# EAGLE library part CONNECTOR-IO4-IOB-V3 (library SPCoast)
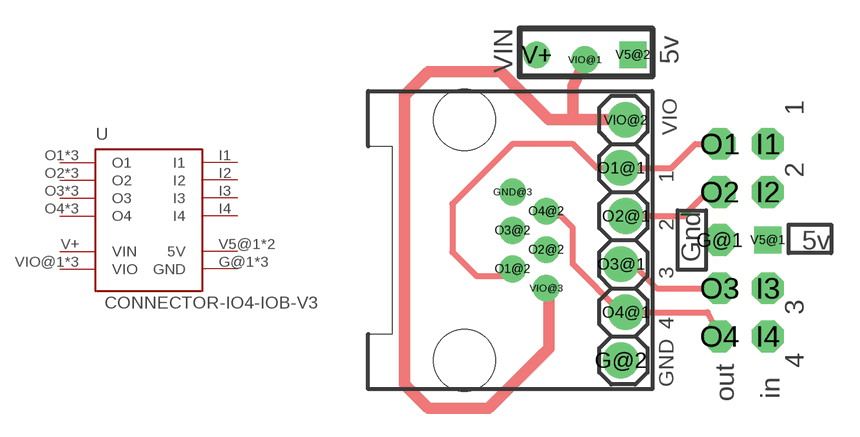
[diagram p81: symbol with the pads of IOB-V3-BASE; footprint IOB-V3-BASE]

Designator prefix -

## CONNECTOR-IO4-IOB-V3  [IOB-V3-BASE]
G@1  GND  sup
G@2  GND  sup
GND@3  GND  sup
I1  I1
I2  I2
I3  I3
I4  I4
O1  O1
O1@1  O1
O1@2  O1
O2  O2
O2@1  O2
O2@2  O2
O3  O3
O3@1  O3
O3@2  O3
O4  O4
O4@1  O4
O4@2  O4
V5@1  5V  sup
V5@2  5V  sup
V+  VIN  sup
VIO@1  VIO  sup
VIO@2  VIO  sup
VIO@3  VIO  sup

## Footprint IOB-V3-BASE (pad centres in mm)
drill 1.016 pad 1.676 octagon: G@1 26.797,10.16; I1 29.337,15.24; I2 29.337,12.7; I3 29.337,7.62; I4 29.337,5.08; O1 26.797,15.24; O2 26.797,12.7; O3 26.797,7.62; O4 26.797,5.08
drill 1.016 pad 1.88: G@2 21.59,3.81; O1@1 21.59,13.97; O2@1 21.844,11.43; O3@1 21.59,8.89; O4@1 21.844,6.35; VIO@2 21.844,16.51
drill 0.9 pad 1.4: GND@3 15.875,12.7; O1@2 15.875,8.636; O2@2 17.653,9.652; O3@2 15.875,10.668; O4@2 17.653,11.684; VIO@3 17.653,7.62
drill 0.9 square: V5@1 29.337,10.16; V5@2 22.225,19.939
drill 0.9: V+ 17.145,19.939; VIO@1 19.685,19.685
hole 3.251 at 13.335,16.51
hole 3.251 at 13.335,3.81